# EAGLE library part MIC4451YM (library MIC4451YM)
Gate Drivers 12A Hi-Speed, Hi-Current Single MOSFET Driver <https://componentsearchengine.com/Images/1/MIC4451YM.jpg> Source: Datasheet <http://ww1.microchip.com/downloads/en/DeviceDoc/mic4451.pdf>
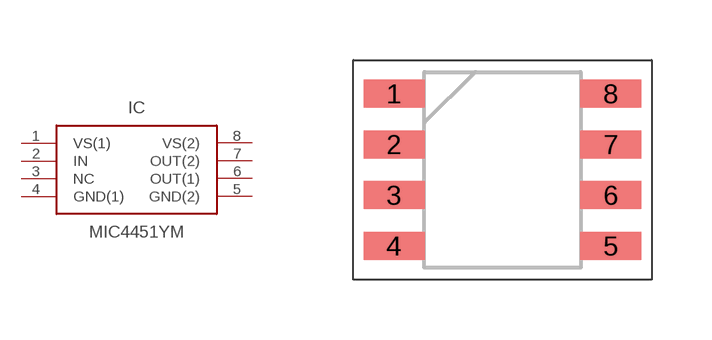
[diagram p0: symbol with the pads of SOIC127P600X163-8N; footprint SOIC127P600X163-8N]

Designator prefix IC

## MIC4451YM (Description: Gate Drivers 12A Hi-Speed, Hi-Current Single MOSFET Driver; Height: 1.63mm; Manufacturer_Name: Micrel; Manufacturer_Part_Number: MIC4451YM; RS_Part_Number: 7272615; Supplier_Name: RS)  [SOIC127P600X163-8N]
1  VS(1)  pas
2  IN  pas
3  NC  nc
4  GND(1)  pas
5  GND(2)  pas
6  OUT(1)  pas
7  OUT(2)  pas
8  VS(2)  pas

## Footprint SOIC127P600X163-8N (pad centres in mm)
8-pin SOIC (M)
smd 1.525 x 0.7: 1 -2.712,1.905; 2 -2.712,0.635; 3 -2.712,-0.635; 4 -2.712,-1.905; 5 2.712,-1.905; 6 2.712,-0.635; 7 2.712,0.635; 8 2.712,1.905